# Altium footprint library DPAK170P1435X465-6N.PcbLib: 1 footprints
Each footprint in its own frame and in the unit in brackets; x right, y up, seen from the top. Pads: shape width x height; smd on the part's side, far side on the other; paste and mask are expansions set on the pad; w line width, h text height; cw(c..) or ccw(c..) is an arc to the next point about the centre after c.
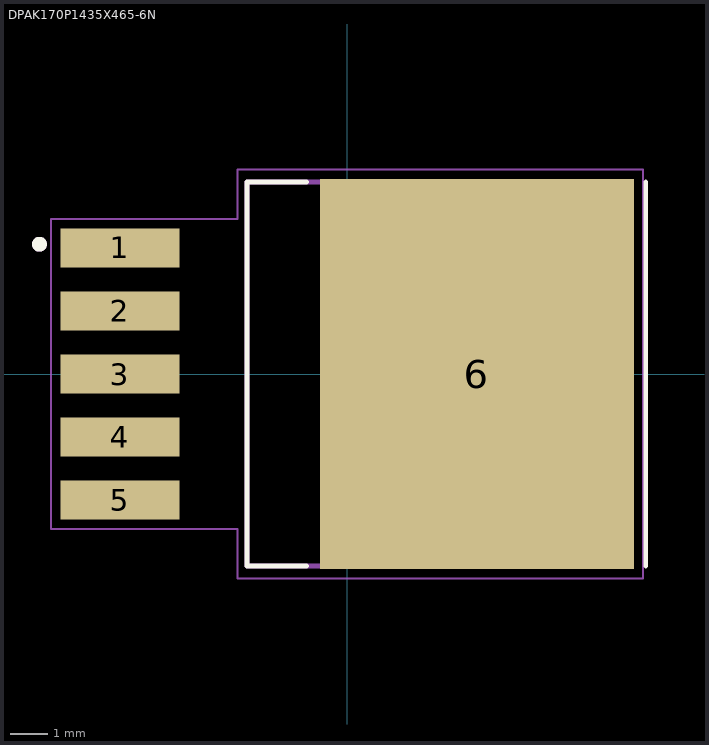
[diagram p0: the footprint, top view; thin cyan lines are the x and y axes]

## DPAK170P1435X465-6N [mm]
height 4.65
pads (6):
  rect 3.21x1.05 smd: 1(-6.13,3.4) 2(-6.13,1.7) 3(-6.13,0) 4(-6.13,-1.7) 5(-6.13,-3.4)
  rect 8.46x10.53 smd paste-6: 6(3.5,0)
Top Overlay:
  circle w0.2: c-8.3,3.5 r0.1
  lines w0.127: -1.1,-5.18 -2.705,-5.18 -2.705,5.18 -1.1,5.18 ; 8.05,-5.18 8.05,5.18
Top Paste:
  region: 5.19,-0.71 3.93,-0.71 3.93,0.71 5.19,0.71
  region: 7.31,-0.71 6.05,-0.71 6.05,0.71 7.31,0.71
  region: 3.07,-0.71 1.81,-0.71 1.81,0.71 3.07,0.71
  region: 0.95,-0.71 -0.31,-0.71 -0.31,0.71 0.95,0.71
  region: 5.19,1.4 3.93,1.4 3.93,2.82 5.19,2.82
  region: 5.19,3.51 3.93,3.51 3.93,4.93 5.19,4.93
  region: 5.19,-2.82 3.93,-2.82 3.93,-1.4 5.19,-1.4
  region: 5.19,-4.93 3.93,-4.93 3.93,-3.51 5.19,-3.51
  region: 7.31,1.4 6.05,1.4 6.05,2.82 7.31,2.82
  region: 7.31,3.51 6.05,3.51 6.05,4.93 7.31,4.93
  region: 7.31,-2.82 6.05,-2.82 6.05,-1.4 7.31,-1.4
  region: 7.31,-4.93 6.05,-4.93 6.05,-3.51 7.31,-3.51
  region: 3.07,-2.82 1.81,-2.82 1.81,-1.4 3.07,-1.4
  region: 3.07,-4.93 1.81,-4.93 1.81,-3.51 3.07,-3.51
  region: 3.07,1.4 1.81,1.4 1.81,2.82 3.07,2.82
  region: 0.95,1.4 -0.31,1.4 -0.31,2.82 0.95,2.82
  region: 0.95,3.51 -0.31,3.51 -0.31,4.93 0.95,4.93
  region: 3.07,3.51 1.81,3.51 1.81,4.93 3.07,4.93
  region: 0.95,-2.82 -0.31,-2.82 -0.31,-1.4 0.95,-1.4
  region: 0.95,-4.93 -0.31,-4.93 -0.31,-3.51 0.95,-3.51
Mechanical 13:
  circle w0.2: c-8.3,3.5 r0.1
  lines w0.127: -2.705,-5.18 -2.705,5.18 6.195,5.18 6.195,-5.18 -2.705,-5.18
Mechanical 15:
  lines w0.05: -7.99,-4.18 -7.99,4.18 -2.96,4.18 -2.96,5.52 7.98,5.52 7.98,-5.52 -2.96,-5.52 -2.96,-4.18 -7.99,-4.18
3D body "step_temp.STEP": height 4.65, standoff 0, extent -7.175,-5.08 7.175,5.08